# EAGLE library part FLASH (library wolff-den)
NOR FLASH
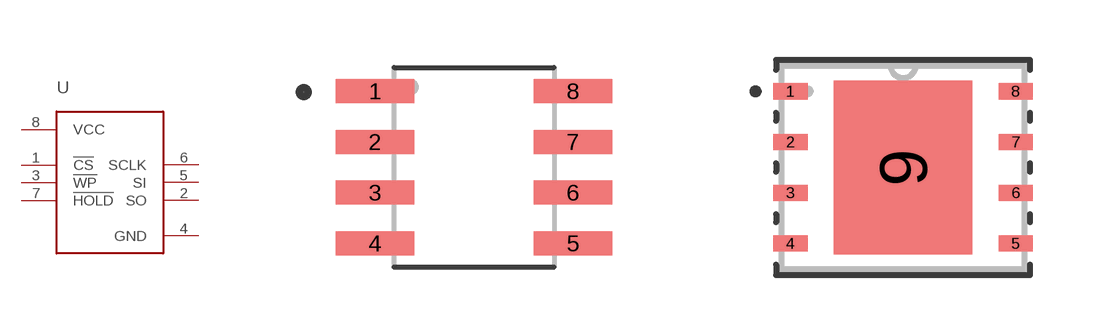
[diagram p5: symbol with the pads of SOIC127P600X175-8N; footprints SOIC127P600X175-8N, WIN_ZP-8-L]

Designator prefix U

## FLASH, FLASH-GD25Q32C (DESC: NOR FLASH 4MB; DIGIKEYPN: 1970-1012-1-ND; MF: GigaDevice; MPN: GD25Q32CTIGR)  [SOIC127P600X175-8N]
1  !CS
2  SO
3  !WP
4  GND
5  SI
6  SCLK
7  !HOLD
8  VCC

## FLASH-WSON, FLASH-W25Q16JVZPIQ-WSON (DESC: IC FLASH 16M SPI 133MHZ 8WSON; DIGIKEYPN: W25Q16JVZPIQ-ND; MPN: W25Q16JVZPIQ), FLASH-W25Q32JVZPIQ-WSON (DESC: IC FLASH 32M SPI 133MHZ 8WSON; DIGIKEYPN: W25Q32JVZPIQ-ND; MPN: W25Q32JVZPIQ)  [WIN_ZP-8-L]
Pads as for SOIC127P600X175-8N

## Footprint SOIC127P600X175-8N (pad centres in mm)
smd 1.97 x 0.6: 1 -2.475,1.905; 2 -2.475,0.635; 3 -2.475,-0.635; 4 -2.475,-1.905; 5 2.475,-1.905; 6 2.475,-0.635; 7 2.475,0.635; 8 2.475,1.905

## Footprint WIN_ZP-8-L (pad centres in mm)
smd 0.86 x 0.403: 1 -2.818,1.905; 2 -2.818,0.635; 3 -2.818,-0.635; 4 -2.818,-1.905; 5 2.818,-1.905; 6 2.818,-0.635; 7 2.818,0.635; 8 2.818,1.905
smd 3.454 x 4.343: 9 0,0